# Altium footprint library INA281B1.PcbLib: 4 footprints
Each footprint in its own frame and in the unit in brackets; x right, y up, seen from the top. Pads: shape width x height; smd on the part's side, far side on the other; paste and mask are expansions set on the pad; w line width, h text height; cw(c..) or ccw(c..) is an arc to the next point about the centre after c.
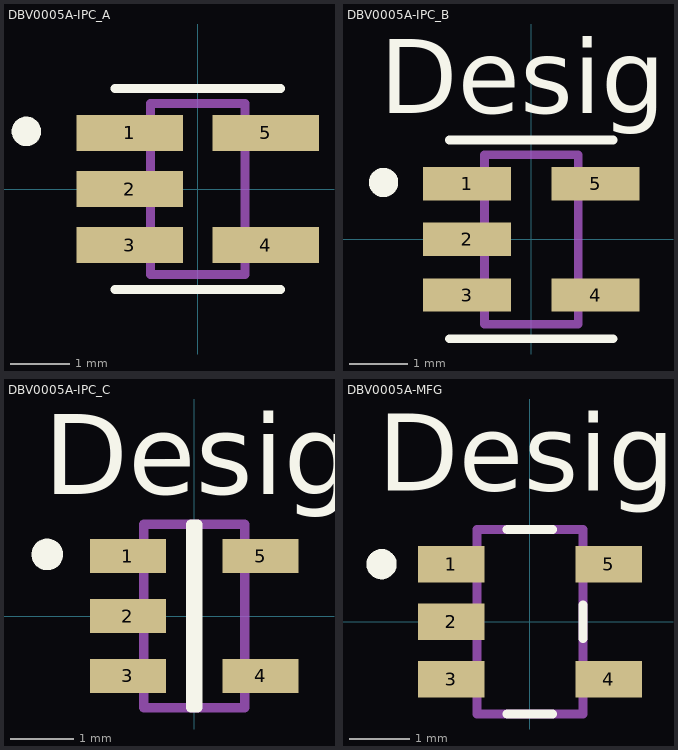
[diagram p0: the footprints below, top view; thin cyan lines are the x and y axes]

## DBV0005A-IPC_A [mm]
pads (5):
  rect 1.805x0.612 smd paste+0 mask+0: 1(-1.15,0.95) 2(-1.15,0) 3(-1.15,-0.95) 4(1.15,-0.95) 5(1.15,0.95)
Top Overlay:
  circle w0.25: c-2.903,0.975 r0.125
  lines w0.15: -1.4,-1.7 1.4,-1.7 ; -1.4,1.7 1.4,1.7
Mechanical 13:
  lines w0.15: -0.8,-1.45 -0.8,1.45 0.8,1.45 0.8,-1.45 -0.8,-1.45
3D body: height 0.25, standoff 0, extent 0,0 0.254,0.254
3D body "SOT-23-5.stp": height 1.2, standoff 0, extent -1.4,-1.45 1.4,1.45

## DBV0005A-IPC_B [mm]
pads (5):
  rect 1.505x0.572 smd paste+0 mask+0: 1(-1.1,0.95) 2(-1.1,0) 3(-1.1,-0.95) 4(1.1,-0.95) 5(1.1,0.95)
Top Overlay:
  circle w0.25: c-2.528,0.975 r0.125
  lines w0.15: -1.4,-1.7 1.4,-1.7 ; -1.4,1.7 1.4,1.7
  text "Designator9" at -2.591,2.159 h1.27
Mechanical 13:
  lines w0.15: -0.8,-1.45 -0.8,1.45 0.8,1.45 0.8,-1.45 -0.8,-1.45
  text ".Designator" at 0.05,-0.418 h1.27
3D body: height 0.25, standoff 0, extent 0,0 0.254,0.254

## DBV0005A-IPC_C [mm]
pads (5):
  rect 1.205x0.532 smd paste+0 mask+0: 1(-1.05,0.95) 2(-1.05,0) 3(-1.05,-0.95) 4(1.05,-0.95) 5(1.05,0.95)
Top Overlay:
  circle w0.25: c-2.328,0.975 r0.125
  lines w0.15: -0.052,-1.45 0.052,-1.45 0.052,1.45 -0.052,1.45 -0.052,-1.45
  text "Designator9" at -2.388,1.93 h1.27
Mechanical 13:
  lines w0.15: -0.8,-1.45 -0.8,1.45 0.8,1.45 0.8,-1.45 -0.8,-1.45
  text ".Designator" at 0.05,-0.418 h1.27
3D body: height 0.25, standoff 0, extent 0,0 0.254,0.254

## DBV0005A-MFG [mm]
pads (5):
  rect 1.1x0.6 smd paste+0 mask+0: 1(-1.3,0.95) 2(-1.3,0) 3(-1.3,-0.95) 4(1.3,-0.95) 5(1.3,0.95)
Top Overlay:
  circle w0.25: c-2.45,0.95 r0.125
  lines w0.15: -0.375,-1.525 0.375,-1.525 ; -0.375,1.525 0.375,1.525 ; 0.875,-0.275 0.875,0.275
  text "Designator9" at -2.515,2.159 h1.27
Mechanical 13:
  lines w0.15: -0.875,-1.525 0.875,-1.525 0.875,1.525 -0.875,1.525 -0.875,-1.525
  text ".Designator" at 0.05,-0.418 h1.27
3D body: height 0.25, standoff 0, extent 0,0 0.254,0.254